# Altium schematic symbol library ICs-AnalogDigitalConverters.SchLib: 1 symbol
Pins are listed as number, name and electrical type; pins without a type are passive.

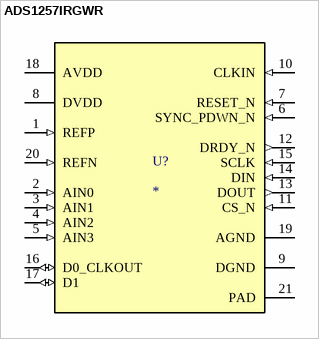
[diagram p0: symbol ADS1257IRGWR]

## ADS1257IRGWR
designator U?
24-Bit, 30kSPS, 4-Ch Industrial ADC With Integrated PGA; PartNumber: ADS1257IRGWR; Alternate_PartNumber: ADS1257IRGW; Manufacturer: Texas Instruments; CompType: IC; PIN_COUNT: 21; Application_BuildNumber: *; PackageReference: RGW0020A; MountType: SMT; RefDes: RefDes; TYPE: TYPE; Value: Value
footprint VQFN-20/RGW
pins: 1 REFP (in), 2 AIN0 (in), 3 AIN1 (in), 4 AIN2 (in), 5 AIN3 (in), 6 SYNC_PDWN_N (in), 7 RESET_N (in), 8 DVDD (power), 9 DGND (power), 10 CLKIN (in), 11 CS_N (in), 12 DRDY_N (out), 13 DOUT (out), 14 DIN (in), 15 SCLK (in), 16 D0_CLKOUT (io), 17 D1 (io), 18 AVDD (power), 19 AGND (power), 20 REFN (in), 21 PAD (power)